# EAGLE library part 1786918 (library 1786918)
DMC 1,5/10-G1-3,5 P20THR - PCB headers, nominal cross section: 1.5 mm2, color: black, nominal current: 8 A, rated voltage (III/2): 160 V, contact surface: Sn, contact connection type: Pin, number of potentials: 20, number of rows: 2, number of positions: 10, number of connections: 20, product range: DMC 1,5/..-G1-THR, pitch: 3.5 mm, mounting: THR soldering / wave soldering, pin layout: Linear pinning, solder pin [P]: 2 mm, number of solder pins per potential: 1, plug-in system: COMBICON DFMC 1,5, Source: Datasheet <https://www.phoenixcontact.com/en-us/products/pcb-header-dmc-1510-g1-35-p20thr-1786918?type=pdf>
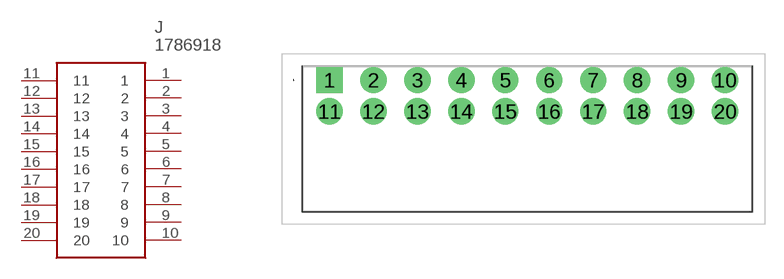
[diagram p0: symbol with the pads of 1786918; footprint 1786918]

Designator prefix J

## 1786918 (Description: DMC 1,5/10-G1-3,5 P20THR - PCB headers, nominal cross section: 1.5 mm<sup>2</sup>, color: black, nominal current: 8 A, rated voltage (III/2): 160 V, contact surface: Sn, contact connection type: Pin, number of potentials: 20, number of rows: 2, number of positions: 10, number of connections: 20, product range: DMC 1,5/..-G1-THR, pitch: 3.5 mm, mounting: THR soldering / wave soldering, pin layout: Linear pinning, solder pin [P]: 2 mm, number of solder pins per potential: 1, plug-in system: COMBICON DFMC 1,5,; Height: 10.95mm; Manufacturer_Name: Phoenix Contact; Manufacturer_Part_Number: 1786918; Mouser_Part_Number: 651-1786918; Mouser_Price-Stock: https://www.mouser.co.uk/ProductDetail/Phoenix-Contact/1786918?qs=c9g5C7Q1WQuZJ7mDX0TZ7A%3D%3D)  [1786918]
1  1
2  2
3  3
4  4
5  5
6  6
7  7
8  8
9  9
10  10
11  11
12  12
13  13
14  14
15  15
16  16
17  17
18  18
19  19
20  20

## Footprint 1786918 (pad centres in mm)
1786918
drill 1.4 pad 2.1 square: 1 0,0
drill 1.4 pad 2.1: 2 3.5,0; 3 7,0; 4 10.5,0; 5 14,0; 6 17.5,0; 7 21,0; 8 24.5,0; 9 28,0; 10 31.5,0; 11 0,-2.5; 12 3.5,-2.5; 13 7,-2.5; 14 10.5,-2.5; 15 14,-2.5; 16 17.5,-2.5; 17 21,-2.5; 18 24.5,-2.5; 19 28,-2.5; 20 31.5,-2.5